# EAGLE library part A3909GLNTR-T (library A3909GLNTR-T)
Low Voltage Dual Full-Bridge Motor Driver Source: Datasheet <http://www.allegromicro.com/~/media/files/datasheets/a3909-datasheet.pdf>
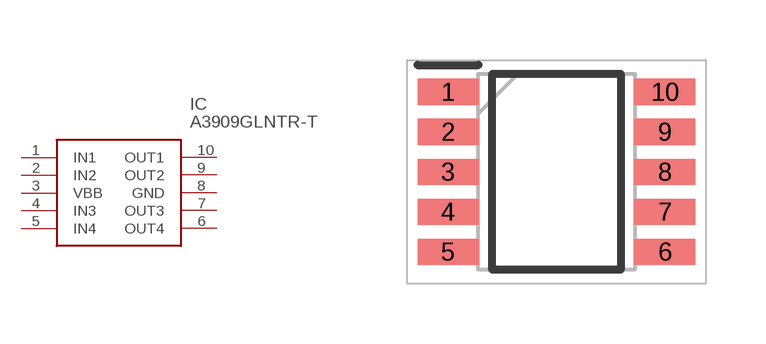
[diagram p0: symbol with the pads of SOP100P600X175-10N; footprint SOP100P600X175-10N]

Designator prefix IC

## A3909GLNTR-T (Description: Low Voltage Dual Full-Bridge Motor Driver; Height: 1.75mm; Manufacturer_Name: Allegro Microsystems; Manufacturer_Part_Number: A3909GLNTR-T; Mouser_Part_Number: 250-A3909GLNTR-T; Mouser_Price-Stock: https://www.mouser.co.uk/ProductDetail/Allegro-MicroSystems/A3909GLNTR-T?qs=pUKx8fyJudC%252BMGD7t6mLWQ%3D%3D)  [SOP100P600X175-10N]
1  IN1
2  IN2
3  VBB
4  IN3
5  IN4
6  OUT4
7  OUT3
8  GND
9  OUT2
10  OUT1

## Footprint SOP100P600X175-10N (pad centres in mm)
LN,10-Pin SOIC
smd 1.525 x 0.65: 1 -2.712,2; 2 -2.712,1; 3 -2.712,0; 4 -2.712,-1; 5 -2.712,-2; 6 2.712,-2; 7 2.712,-1; 8 2.712,0; 9 2.712,1; 10 2.712,2